# Altium schematic symbol library Module.SchLib: 6 symbols
Pins are listed as number, name and electrical type; pins without a type are passive.

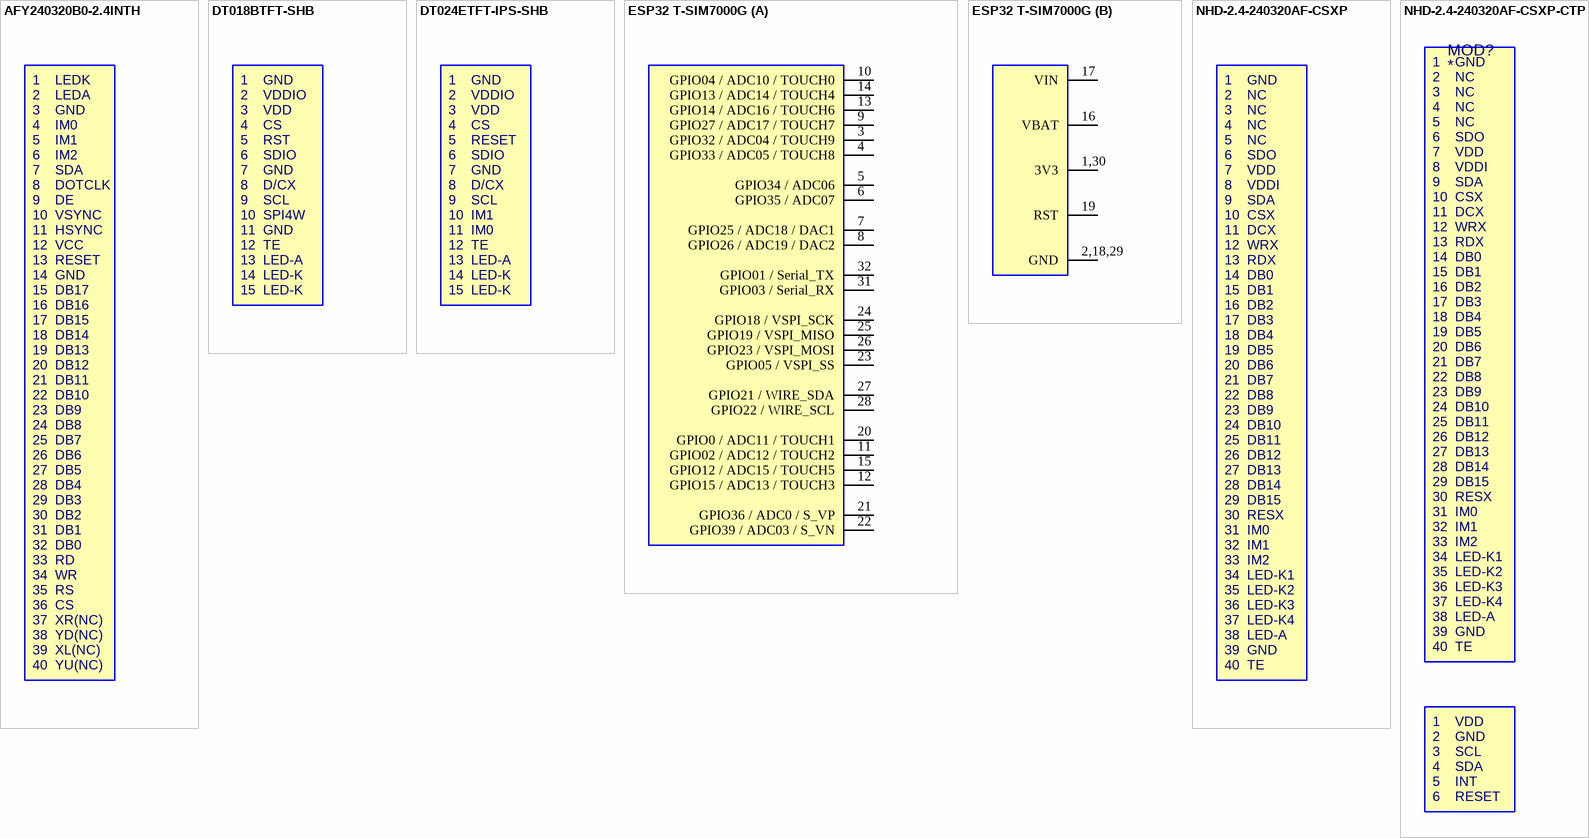
[diagram p0: symbols AFY240320B0-2.4INTH to NHD-2.4-240320AF-CSXP-CTP]

## AFY240320B0-2.4INTH
designator MOD?
text: 1; LEDK; 2; LEDA; 3; GND; 4; IM0; 5; IM1; 6; IM2; 7; SDA; 8; DOTCLK; 9; DE; 10; VSYNC; 11; HSYNC; 12; VCC; 13; RESET; 14; 15; DB17; 16; DB16; 17; DB15; 18; DB14; 19; DB13; 20; DB12; 21; DB11; 22; DB10; 23; DB9; 24; DB8; 25; DB7; 26; DB6; 27; DB5; 28; DB4; 29; DB3; 30; DB2; 31; DB1; 32; DB0; 33; RD; 34; WR; 35; RS; 36; CS; 37; XR(NC); 38; YD(NC); 39; XL(NC); 40; YU(NC)

## DT018BTFT-SHB
designator MOD?
text: 1; GND; 2; VDDIO; 3; VDD; 4; CS; 5; RST; 6; SDIO; 7; 8; D/CX; 9; SCL; 10; SPI4W; 11; 12; TE; 13; LED-A; 14; LED-K; 15

## DT024ETFT-IPS-SHB
designator MOD?
text: 1; GND; 2; VDDIO; 3; VDD; 4; CS; 5; RESET; 6; SDIO; 7; 8; D/CX; 9; SCL; 10; IM1; 11; IM0; 12; TE; 13; LED-A; 14; LED-K; 15

## ESP32 T-SIM7000G
designator MOD?
Symbol for ESP32 SIM Card T-SIM7000G module
part A pins: 3 GPIO32 / ADC04 / TOUCH9, 4 GPIO33 / ADC05 / TOUCH8, 5 GPIO34 / ADC06, 6 GPIO35 / ADC07, 7 GPIO25 / ADC18 / DAC1, 8 GPIO26 / ADC19 / DAC2, 9 GPIO27 / ADC17 / TOUCH7, 10 GPIO04 / ADC10 / TOUCH0, 11 GPIO02 / ADC12 / TOUCH2, 12 GPIO15 / ADC13 / TOUCH3, 13 GPIO14 / ADC16 / TOUCH6, 14 GPIO13 / ADC14 / TOUCH4, 15 GPIO12 / ADC15 / TOUCH5, 20 GPIO0 / ADC11 / TOUCH1, 21 GPIO36 / ADC0 / S_VP, 22 GPIO39 / ADC03 / S_VN, 23 GPIO05 / VSPI_SS, 24 GPIO18 / VSPI_SCK, 25 GPIO19 / VSPI_MISO, 26 GPIO23 / VSPI_MOSI, 27 GPIO21 / WIRE_SDA, 28 GPIO22 / WIRE_SCL, 31 GPIO03 / Serial_RX, 32 GPIO01 / Serial_TX
part B pins: 1,30 3V3, 2,18,29 GND, 16 VBAT, 17 VIN, 19 RST

## NHD-2.4-240320AF-CSXP
designator MOD?
text: 1; GND; 2; NC; 3; 4; 5; 6; SDO; 7; VDD; 8; VDDI; 9; SDA; 10; CSX; 11; DCX; 12; WRX; 13; RDX; 14; DB0; 15; DB1; 16; DB2; 17; DB3; 18; DB4; 19; DB5; 20; DB6; 21; DB7; 22; DB8; 23; DB9; 24; DB10; 25; DB11; 26; DB12; 27; DB13; 28; DB14; 29; DB15; 30; RESX; 31; IM0; 32; IM1; 33; IM2; 34; LED-K1; 35; LED-K2; 36; LED-K3; 37; LED-K4; 38; LED-A; 39; 40; TE

## NHD-2.4-240320AF-CSXP-CTP
designator MOD?
text: 1; GND; 2; NC; 3; 4; 5; 6; SDO; 7; VDD; 8; VDDI; 9; SDA; 10; CSX; 11; DCX; 12; WRX; 13; RDX; 14; DB0; 15; DB1; 16; DB2; 17; DB3; 18; DB4; 19; DB5; 20; DB6; 21; DB7; 22; DB8; 23; DB9; 24; DB10; 25; DB11; 26; DB12; 27; DB13; 28; DB14; 29; DB15; 30; RESX; 31; IM0; 32; IM1; 33; IM2; 34; LED-K1; 35; LED-K2; 36; LED-K3; 37; LED-K4; 38; LED-A; 39; 40; TE; SCL; INT; RESET